# EAGLE library part UJ31-CH-G1-SMT-TR (library Connectors)
Type C, USB 3.1 Gen 2, Right Angle, Surface Mount (SMT) , USB Receptacle
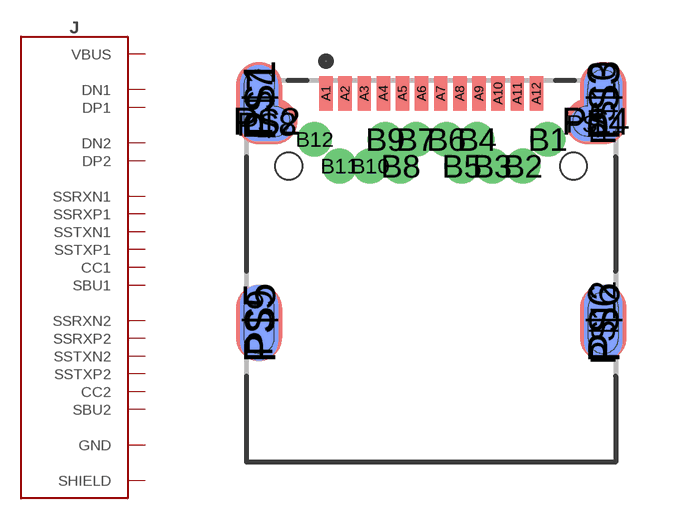
[diagram p25: symbol with the pads of CUI_UJ31-CH-G1-SMT-TR; footprint CUI_UJ31-CH-G1-SMT-TR]

Designator prefix J

## UJ31-CH-G1-SMT-TR (DIGIKEY#: 102-4483-1-ND; MANF: CUI Inc; MANF#: UJ31-CH-G2-SMT-TR)  [CUI_UJ31-CH-G1-SMT-TR]
A1  GND  pwr
A2  SSTXP1
A3  SSTXN1
A4  VBUS  pwr
A5  CC1
A6  DP1
A7  DN1
A8  SBU1
A9  VBUS  pwr
A10  SSRXN2
A11  SSRXP2
A12  GND  pwr
B1  GND  pwr
B2  SSTXP2
B3  SSTXN2
B4  VBUS  pwr
B5  CC2
B6  DP2
B7  DN2
B8  SBU2
B9  VBUS  pwr
B10  SSRXN1
B11  SSRXP1
B12  GND  pwr
P$1  SHIELD  pwr
P$2  SHIELD  pwr
P$3  SHIELD  pwr
P$4  SHIELD  pwr
P$5  SHIELD  pwr
P$6  SHIELD  pwr

## Footprint CUI_UJ31-CH-G1-SMT-TR (pad centres in mm)
smd 0.35 x 0.89: A1 -2.75,0.255; A2 -2.25,0.255; A3 -1.75,0.255; A4 -1.25,0.255; A5 -0.75,0.255; A6 -0.25,0.255; A7 0.25,0.255; A8 0.75,0.255; A9 1.25,0.255; A10 1.75,0.255; A11 2.25,0.255; A12 2.75,0.255
drill 0.4 pad 0.6: B1 3.05,-0.95; B2 2.4,-1.65; B3 1.6,-1.65; B4 1.2,-0.95; B5 0.8,-1.65; B6 0.4,-0.95; B7 -0.4,-0.95; B8 -0.8,-1.65; B9 -1.2,-0.95; B10 -1.6,-1.65; B11 -2.4,-1.65; B12 -3.05,-0.95
smd 1.2 x 2: P$1 -4.5,0.075; P$3 4.5,0.075; P$5 -4.5,-5.75; P$6 4.5,-5.75
smd 1.6 x 1.2: P$2 -4.3,-0.475; P$4 4.3,-0.475
smd 1 x 2 bottom: P$7 -4.5,0; P$9 -4.5,-5.75; P$10 4.5,0; P$12 4.5,-5.75
smd 1.4 x 0.9 bottom: P$8 -4.3,-0.55; P$11 4.3,-0.55
hole 0.7 at -3.725,-1.65
hole 0.7 at 3.725,-1.65